# EAGLE library part DG470 (library vishay)
Analog Switch DPST 2:1 6 Ohm
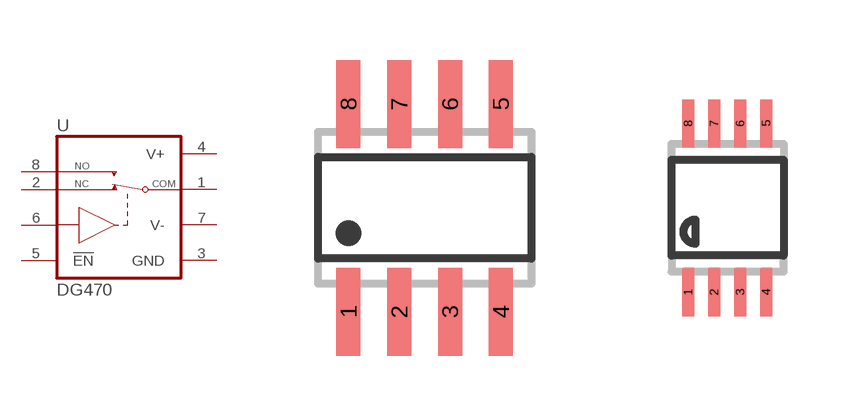
[diagram p4: symbol with the pads of SO08; footprints SO08, MSOP08]

Designator prefix U

## DG470EY  [SO08]
1  COM  pas
2  NC  pas
3  GND  pwr
4  V+  pwr
5  !EN  in
6  IN  in
7  V-  pwr
8  NO  pas

## DG470EQ  [MSOP08]
Pads as for SO08

## Footprint SO08 (pad centres in mm)
SMALL OUTLINE INTEGRATED CIRCUIT body 3.9 mm/JEDEC MS-012AA
smd 0.6 x 2.2: 1 -1.905,-2.6; 2 -0.635,-2.6; 3 0.635,-2.6; 4 1.905,-2.6; 5 1.905,2.6; 6 0.635,2.6; 7 -0.635,2.6; 8 -1.905,2.6

## Footprint MSOP08 (pad centres in mm)
Mini Small Outline Package
smd 0.3 x 1.2: 1 -0.976,-2.113; 2 -0.326,-2.113; 3 0.324,-2.113; 4 0.974,-2.113; 5 0.974,2.112; 6 0.324,2.112; 7 -0.326,2.112; 8 -0.976,2.112